# Altium schematic symbol library LM5155DSSR.Schlib: 1 symbol
Pins are listed as number, name and electrical type; pins without a type are passive.

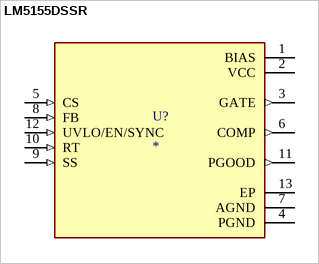
[diagram p0: symbol LM5155DSSR]

## LM5155DSSR
designator U?
2.2-MHz wide VIN, 1.5-A MOSFET driver, non-synchronous boost controller
pins: 1 BIAS (power), 2 VCC (power), 3 GATE (out), 4 PGND (power), 5 CS (in), 6 COMP (out), 7 AGND (power), 8 FB (in), 9 SS (in), 10 RT (in), 11 PGOOD (out), 12 UVLO/EN/SYNC (in), 13 EP (power)